# EAGLE library part TEENSYCUSTOM_MINI54TAN (library Custom_Teensy_3.1)
MINI54TAN Bootloader from PJRC.com, preprogrammed with Teensy 3.0 bootloader. https://www.pjrc.com/store/ic_mini54_tqfp.html
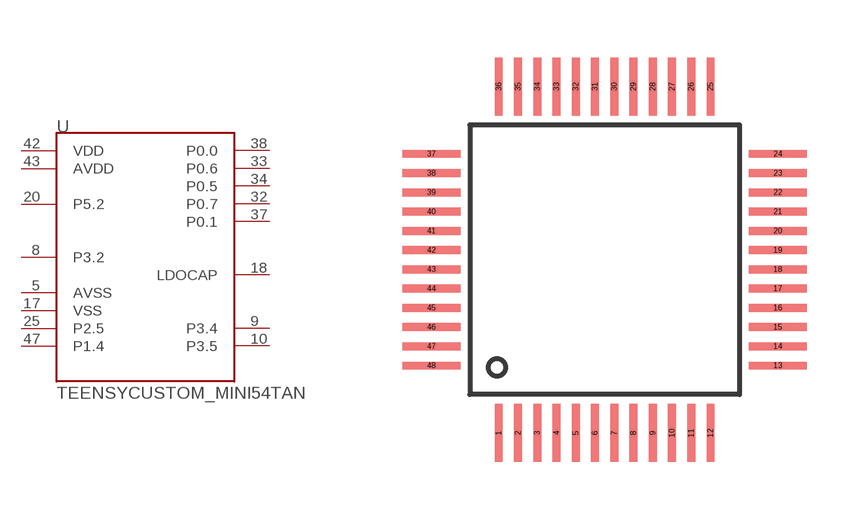
[diagram p0: symbol with the pads of TEENSYCUSTOM_MINI54TAN; footprint TEENSYCUSTOM_MINI54TAN]

Designator prefix U

## TEENSYCUSTOM_MINI54TAN  [TEENSYCUSTOM_MINI54TAN]
5  AVSS
8  P3.2
9  P3.4
10  P3.5
17  VSS
18  LDOCAP
20  P5.2
25  P2.5
32  P0.7
33  P0.6
34  P0.5
37  P0.1
38  P0.0
42  VDD
43  AVDD
47  P1.4

## Footprint TEENSYCUSTOM_MINI54TAN (pad centres in mm)
smd 0.203 x 1.5: 1 -2.75,-4.5; 2 -2.25,-4.5; 3 -1.75,-4.5; 4 -1.25,-4.5; 5 -0.75,-4.5; 6 -0.25,-4.5; 7 0.25,-4.5; 8 0.75,-4.5; 9 1.25,-4.5; 10 1.75,-4.5; 11 2.25,-4.5; 12 2.75,-4.5; 25 2.75,4.5; 26 2.25,4.5; 27 1.75,4.5; 28 1.25,4.5; 29 0.75,4.5; 30 0.25,4.5; 31 -0.25,4.5; 32 -0.75,4.5; 33 -1.25,4.5; 34 -1.75,4.5; 35 -2.25,4.5; 36 -2.75,4.5
smd 1.5 x 0.203: 13 4.5,-2.75; 14 4.5,-2.25; 15 4.5,-1.75; 16 4.5,-1.25; 17 4.5,-0.75; 18 4.5,-0.25; 19 4.5,0.25; 20 4.5,0.75; 21 4.5,1.25; 22 4.5,1.75; 23 4.5,2.25; 24 4.5,2.75; 37 -4.5,2.75; 38 -4.5,2.25; 39 -4.5,1.75; 40 -4.5,1.25; 41 -4.5,0.75; 42 -4.5,0.25; 43 -4.5,-0.25; 44 -4.5,-0.75; 45 -4.5,-1.25; 46 -4.5,-1.75; 47 -4.5,-2.25; 48 -4.5,-2.75